# Altium footprint library HyTechDevices.PCBLIB: 209 footprints (part 3 of 14)
Each footprint in its own frame and in the unit in brackets; x right, y up, seen from the top. Pads: shape width x height; smd on the part's side, far side on the other; paste and mask are expansions set on the pad; w line width, h text height; cw(c..) or ccw(c..) is an arc to the next point about the centre after c.
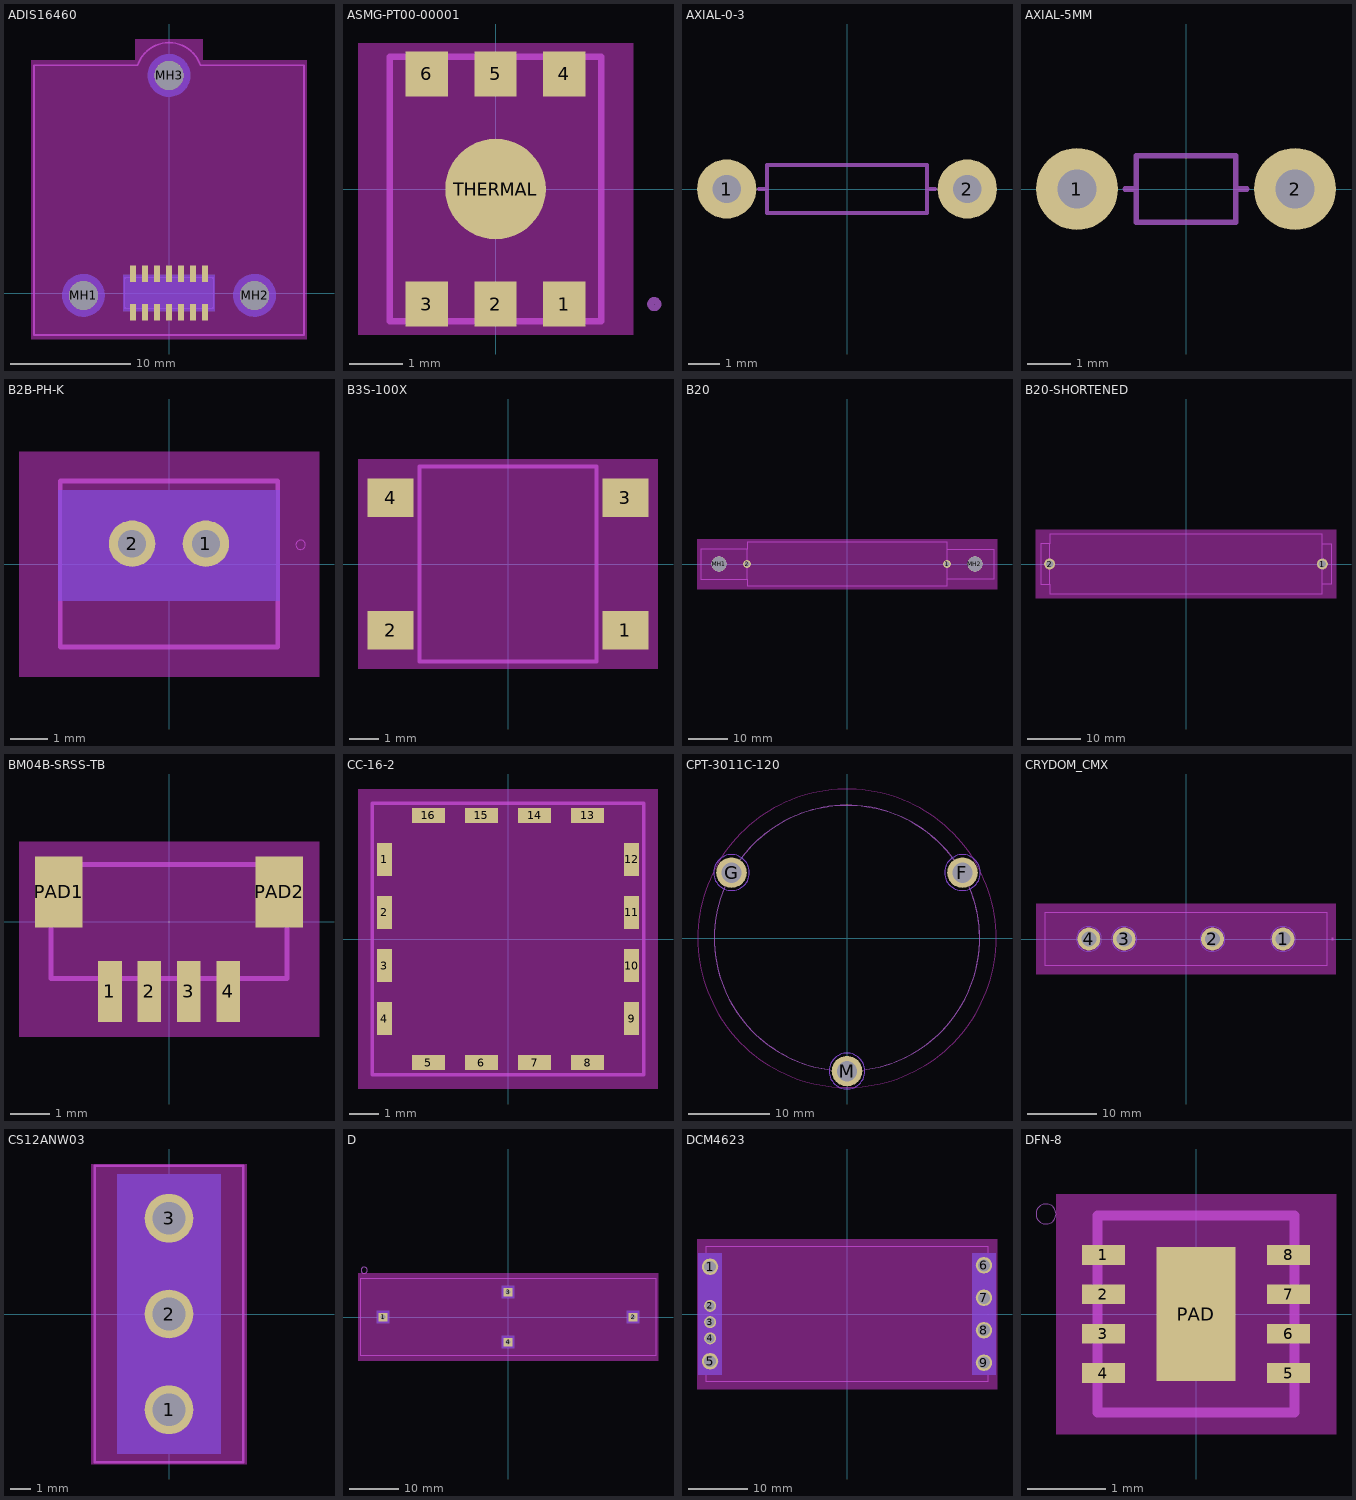
[diagram p2: the footprints below, top view; thin cyan lines are the x and y axes]

## ADIS16460 [mm]
pads (17):
  rect 0.5x1.37 smd: 1(-3,1.6) 2(-3,-1.6) 3(-2,1.6) 4(-2,-1.6) 5(-1,1.6) 6(-1,-1.6) 7(0,1.6) 8(0,-1.6) 9(1,1.6) 10(1,-1.6) 11(2,1.6) 12(2,-1.6) 13(3,1.6) 14(3,-1.6)
  round 2.4 hole 2.4 unplated: MH1(-7.1,-0.19) MH2(7.1,-0.19) MH3(0,18.06)
Top keep-out:
  region: -11.43,-3.81 -11.43,19.304 11.43,19.304 11.43,-3.81
  region: -2.794,19.304 -2.794,21.082 2.794,21.082 2.794,19.304
Bottom keep-out:
  circle w1.778: c-7.1,-0.19 r0.889
  circle w1.778: c7.1,-0.19 r0.889
  circle w1.778: c0,18.06 r0.889
  region: -3.81,-1.524 -3.81,1.524 3.81,1.524 3.81,-1.524
tPlace:
  lines w0.127: -3.659,-1.27 3.659,-1.27 3.659,1.27 -3.659,1.27 -3.659,-1.27
  lines w0.152: -11.2,-3.49 -11.2,18.91 -2.6,18.91 cw(c0,18.04) 2.6,18.91 11.2,18.91 11.2,-3.49 -11.2,-3.49

## ASMG-PT00-00001 [mil]
pads (7):
  rect 31.5x33.46 smd: 1(51.18,-85.63) 2(0,-85.63) 3(-51.18,-85.63) 4(51.18,85.63) 5(0,85.63) 6(-51.18,85.63)
  rrect100% 74.8x74.8 smd: THERMAL(0,0)
Top keep-out:
  region: -102.36,-108.27 -102.36,108.27 102.36,108.27 102.36,-108.27
tPlace:
  circle w5: c118.11,-85.63 r2.76
  lines w5: -78.74,-98.43 78.74,-98.43 78.74,98.43 -78.74,98.43 -78.74,-98.43
  text "+" at -118.11,78.74 h27.2
  text "-" at -118.11,-78.74 h49.6

## AXIAL-0-3 [mil]
pads (2):
  round 74 hole 35.43: 1(-150,0) 2(150,0)
tPlace:
  lines w5: -110,0 -100,0 ; 110,0 100,0 ; -100,0 -100,-30 100,-30 100,0 ; -100,0 -100,30 100,30 100,0

## AXIAL-5MM [mil]
pads (2):
  round 74 hole 35.43: 1(-98.43,0) 2(98.43,0)
tPlace:
  lines w5: -54.88,0 -44.88,0 ; 54.88,0 44.88,0 ; -44.88,0 -44.88,-30 44.88,-30 44.88,0 ; -44.88,0 -44.88,30 44.88,30 44.88,0

## B2B-PH-K [mm]
pads (2):
  round 1.258 hole 0.75: 1(1,0.55) 2(-1,0.55)
Top keep-out:
  region: -4.064,-3.048 -4.064,3.048 4.064,3.048 4.064,-3.048
Bottom keep-out:
  region: -3,-1 -3,2 3,2 3,-1
tPlace:
  circle w0: c3.566,0.519 r0.127
  lines w0.127: -2.95,-2.25 -2.95,2.25 2.95,2.25 2.95,-2.25 -2.95,-2.25

## B3S-100X [mil]
pads (4):
  rect 61.02x51.18 smd: 1(156.5,-88.58) 2(-156.5,-88.58) 3(156.5,88.58) 4(-156.5,88.58)
Top keep-out:
  region: -200,-140 -200,140 200,140 200,-140
tPlace:
  lines w5: -118.11,-129.92 118.11,-129.92 118.11,129.92 -118.11,129.92 -118.11,-129.92

## B20 [mm]
pads (4):
  round 2.025 hole 1.35: 1(25.4,0) 2(-25.4,0)
  round 3.74 hole 3.74 unplated: MH1(-32.51,0) MH2(32.51,0)
Top keep-out:
  region: -38.1,-6.35 -38.1,6.35 38.1,6.35 38.1,-6.35
tPlace:
  lines w0.127: -25.4,-3.81 -25.4,-5.555 25.4,-5.555 25.4,-3.81 ; -25.4,3.81 -25.4,5.555 25.4,5.555 25.4,3.81
  lines w0.152: -37.211,-3.81 -37.211,3.81 -25.4,3.81 -25.4,-3.81 -37.211,-3.81 ; 25.4,-3.81 37.211,-3.81 37.211,3.81 25.4,3.81 25.4,-3.81

## B20-SHORTENED [mm]
pads (2):
  round 2.025 hole 1.35: 1(25.4,0) 2(-25.4,0)
Top keep-out:
  region: -27.94,-6.35 -27.94,6.35 27.94,6.35 27.94,-6.35
tPlace:
  lines w0.127: -25.4,-3.81 -25.4,-5.555 25.4,-5.555 25.4,-3.81 ; -25.4,3.81 -25.4,5.555 25.4,5.555 25.4,3.81
  lines w0.152: -27.051,-3.81 -27.051,3.81 -25.4,3.81 -25.4,-3.81 -27.051,-3.81 ; 25.4,-3.81 27.051,-3.81 27.051,3.81 25.4,3.81 25.4,-3.81

## BM04B-SRSS-TB [mil]
pads (6):
  rect 23.62x61.02 smd: 1(-59.06,-69.88) 2(-19.69,-69.88) 3(19.69,-69.88) 4(59.06,-69.88)
  rect 47.24x70.87 smd: PAD1(-110.24,29.53) PAD2(110.24,29.53)
Top keep-out:
  region: -150,-115 -150,80 150,80 150,-115
tPlace:
  lines w5: -118.11,-57.09 -118.11,57.09 118.11,57.09 118.11,-57.09 -118.11,-57.09

## CC-16-2 [mil]
pads (16):
  rect 19.69x44.37 smd: 1(-164.82,106.12) 2(-164.82,35.37) 3(-164.82,-35.37) 4(-164.82,-106.12) 9(164.82,-106.12) 10(164.82,-35.37) 11(164.82,35.37) 12(164.82,106.12)
  rect 44.37x19.69 smd: 5(-106.12,-164.82) 6(-35.37,-164.82) 7(35.37,-164.82) 8(106.12,-164.82) 13(106.12,164.82) 14(35.37,164.82) 15(-35.37,164.82) 16(-106.12,164.82)
Top keep-out:
  region: -200,-200 -200,200 200,200 200,-200
tPlace:
  lines w5: -181.1,-181.1 181.1,-181.1 181.1,181.1 -181.1,181.1 -181.1,-181.1

## CPT-3011C-120 [mil]
pads (3):
  round 147.65 hole 98.43: F(557.56,316.97) G(-557.56,316.97) M(0,-641.34)
Top keep-out:
  circle w0: c0,0 r720.47
Bottom keep-out:
  circle w0: c-557.56,316.97 r86.61
  circle w0: c557.56,316.97 r86.61
  circle w0: c0,-641.34 r86.61
tDocu:
  circle w5: c0,0 r640.55
tPlace:
  lines w5: -592.91,242.52 ccw(c-0.52,-0.05) -81.5,-635.04 ; -504.72,393.7 cw(c1.07,3.31) 515.75,381.89 ; 83.07,-635.43 ccw(c-0.34,-0.12) 591.73,244.88

## CRYDOM_CMX [mil]
pads (4):
  round 129 hole 86: 1(550,0) 2(150,0) 3(-350,0) 4(-550,0)
Top keep-out:
  region: -850,-200 -850,200 850,200 850,-200
Bottom keep-out:
  circle w0: c-550,0 r70.71
  circle w0: c-350,0 r70.71
  circle w0: c150,0 r70.71
  circle w0: c550,0 r70.71
tPlace:
  circle w0: c830,0 r5
  lines w5: -800,-150 -800,150 800,150 800,-150 -800,-150

## CS12ANW03 [mm]
pads (3):
  round 2.4 hole 1.6: 1(0,-4.7) 2(0,0) 3(0,4.7)
Top keep-out:
  region: -3.81,-7.366 -3.81,7.366 3.81,7.366 3.81,-7.366
Bottom keep-out:
  region: -2.54,-6.858 -2.54,6.858 2.54,6.858 2.54,-6.858
tPlace:
  lines w0.127: -3.638,-7.276 -3.638,7.276 3.638,7.276 3.638,-7.276 -3.638,-7.276

## D [mil]
pads (4):
  rect 70x70 / inner round 64.67 / far side rect 70x70 hole 39.37: 1(-1000,0) 2(1000,0) 3(0,200) 4(0,-200)
Top keep-out:
  region: -1200,-350 -1200,350 1200,350 1200,-350
Bottom keep-out:
  region: -1050,-50 -1050,50 -950,50 -950,-50
  region: -50,150 -50,250 50,250 50,150
  region: -50,-250 -50,-150 50,-150 50,-250
  region: 950,-50 950,50 1050,50 1050,-50
tPlace:
  circle w0: c-1150,375 r25
  lines w6: -1180,-310 1180,-310 1180,310 -1180,310 -1180,-310

## DCM4623 [mm]
pads (9):
  round 2.79 hole 2.03: 1(-23.19,8) 5(-23.19,-8) 6(23.19,8.25) 7(23.19,2.75) 8(23.19,-2.75) 9(23.19,-8.25)
  round 2.02 hole 1.52: 2(-23.19,1.38) 3(-23.19,-1.38) 4(-23.19,-4.13)
Top keep-out:
  region: -25.4,-12.7 -25.4,12.7 25.4,12.7 25.4,-12.7
Bottom keep-out:
  region: 21.19,-10.25 21.19,10.25 25.19,10.25 25.19,-10.25
  region: -25.19,-10.25 -25.19,10.25 -21.19,10.25 -21.19,-10.25
tPlace:
  lines w0.127: -23.955,-11.4 -23.955,11.4 23.955,11.4 23.955,-11.4 -23.955,-11.4

## DFN-8 [mm]
pads (9):
  rect 0.55x0.25 smd: 1(-1.175,0.75) 2(-1.175,0.25) 3(-1.175,-0.25) 4(-1.175,-0.75) 5(1.175,-0.75) 6(1.175,-0.25) 7(1.175,0.25) 8(1.175,0.75)
  rect 1x1.7 smd: PAD(0,0)
Top keep-out:
  region: -1.778,-1.524 -1.778,1.524 1.778,1.524 1.778,-1.524
tPlace:
  circle w0: c-1.905,1.27 r0.127
  lines w0.127: -1.25,-1.25 -1.25,1.25 1.25,1.25 1.25,-1.25 -1.25,-1.25